# Altium schematic symbol library LM22677.SchLib: 1 symbol
Pins are listed as number, name and electrical type; pins without a type are passive.

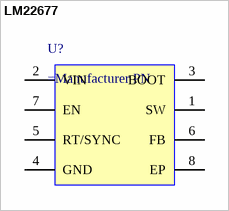
[diagram p0: symbol LM22677]

## LM22677
designator U?
TI Simple Switcher
pins: 1 SW, 2 VIN, 3 BOOT, 4 GND, 5 RT/SYNC, 6 FB, 7 EN, 8 EP